# Altium schematic symbol library LEDDrivers.SchLib: 1 symbol
Pins are listed as number, name and electrical type; pins without a type are passive.

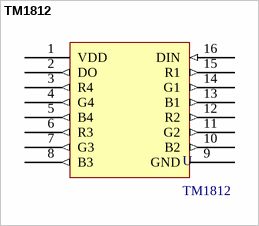
[diagram p0: symbol TM1812]

## TM1812
designator U
footprint LC-SOP-16_150mil
pins: 1 VDD (power), 2 DO (out), 3 R4 (out), 4 G4 (out), 5 B4 (out), 6 R3 (out), 7 G3 (out), 8 B3 (out), 9 GND (power), 10 B2 (out), 11 G2 (out), 12 R2 (out), 13 B1 (out), 14 G1 (out), 15 R1 (out), 16 DIN (in)